# Altium footprint library Components - 12.06.24 - 00.46.PcbLib: 1 footprints
Each footprint in its own frame and in the unit in brackets; x right, y up, seen from the top. Pads: shape width x height; smd on the part's side, far side on the other; paste and mask are expansions set on the pad; w line width, h text height; cw(c..) or ccw(c..) is an arc to the next point about the centre after c.
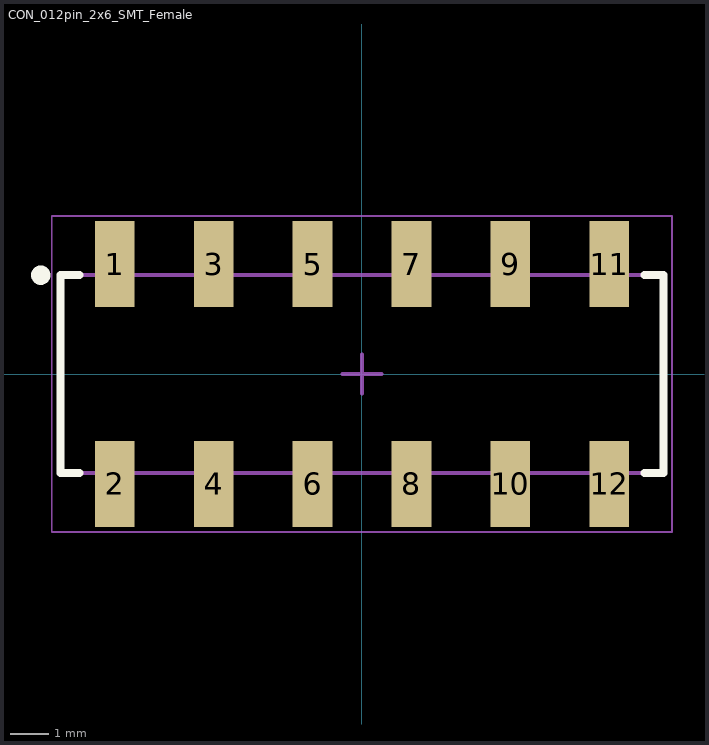
[diagram p0: the footprint, top view; thin cyan lines are the x and y axes]

## CON_012pin_2x6_SMT_Female [mm] "C.L. Double Vertical SMT Socket Strip, 2x6 Pins, 2.54mm Pitch, Female"
height 7.47
pads (12):
  rect 1.02x2.22 smd: 1(-6.35,2.825) 2(-6.35,-2.825) 3(-3.81,2.825) 4(-3.81,-2.825) 5(-1.27,2.825) 6(-1.27,-2.825) 7(1.27,2.825) 8(1.27,-2.825) 9(3.81,2.825) 10(3.81,-2.825) 11(6.35,2.825) 12(6.35,-2.825)
Top Overlay:
  circle w0.25: c-8.255,2.54 r0.125
  lines w0.2: -7.26,-2.54 -7.745,-2.54 -7.745,2.54 -7.26,2.54 ; 7.26,-2.54 7.745,-2.54 7.745,2.54 7.26,2.54
Mechanical 13:
  lines w0.1: -7.745,-2.54 -7.745,2.54 7.745,2.54 7.745,-2.54 -7.745,-2.54
Mechanical 15:
  lines w0.05: -7.97,-4.06 7.97,-4.06 7.97,4.06 -7.97,4.06 -7.97,-4.06
  lines w0.1: -0.5,0 0.5,0 ; 0,-0.5 0,0.5
3D body "SSM-106-X-DV.step": height 7.49, standoff 0, extent -7.62,-3.518 7.62,3.518